# Altium schematic symbol library humidity sensor.SchLib: 2 symbols
Pins are listed as number, name and electrical type; pins without a type are passive.

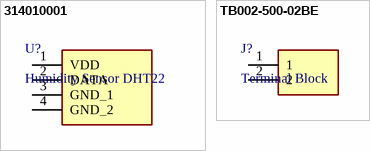
[diagram p0: symbols 314010001 to TB002-500-02BE]

## 314010001
designator U?, comment Humidity Sensor DHT22
Manufacturer_Name: Seeed Studio; Manufacturer_Part_Number: 314010001; Description: Temperature Sensor Development Tools Temperature-Humidity Sensor-DHT22(AM2302); Datasheet Link: https://cdn-shop.adafruit.com/datasheets/Digital+humidity+and+temperature+sensor+AM2302.pdf; Height: 25.1mm; Mouser Part Number: 713-314010001; Mouser Price/Stock: https://www.mouser.co.uk/ProductDetail/Seeed-Studio/314010001?qs=XeJtXLiO41Rct75wpr%2Fpbg%3D%3D
footprint 314010001
pins: 1 VDD, 2 DATA, 3 GND_1, 4 GND_2

## TB002-500-02BE
designator J?, comment Terminal Block
Connector; Manufacturer_Name: CUI Devices; Manufacturer_Part_Number: TB002-500-02BE; Datasheet Link: https://eu.mouser.com/datasheet/2/670/tb002_500-1550579.pdf; Height: 10.4mm; Mouser Part Number: 490-TB002-500-02BE; Mouser Price/Stock: https://www.mouser.co.uk/ProductDetail/CUI-Devices/TB002-500-02BE?qs=vLWxofP3U2x9716kcgva%2Fw%3D%3D; Arrow Part Number: TB002-500-02BE; Arrow Price/Stock: https://www.arrow.com/en/products/tb002-500-02be/cui-devices?region=nac
footprint TB00250002BE
pins: 1, 2